# Altium footprint library Power Devices.PcbLib: 48 footprints (part 1 of 3)
Each footprint in its own frame and in the unit in brackets; x right, y up, seen from the top. Pads: shape width x height; smd on the part's side, far side on the other; paste and mask are expansions set on the pad; w line width, h text height; cw(c..) or ccw(c..) is an arc to the next point about the centre after c.
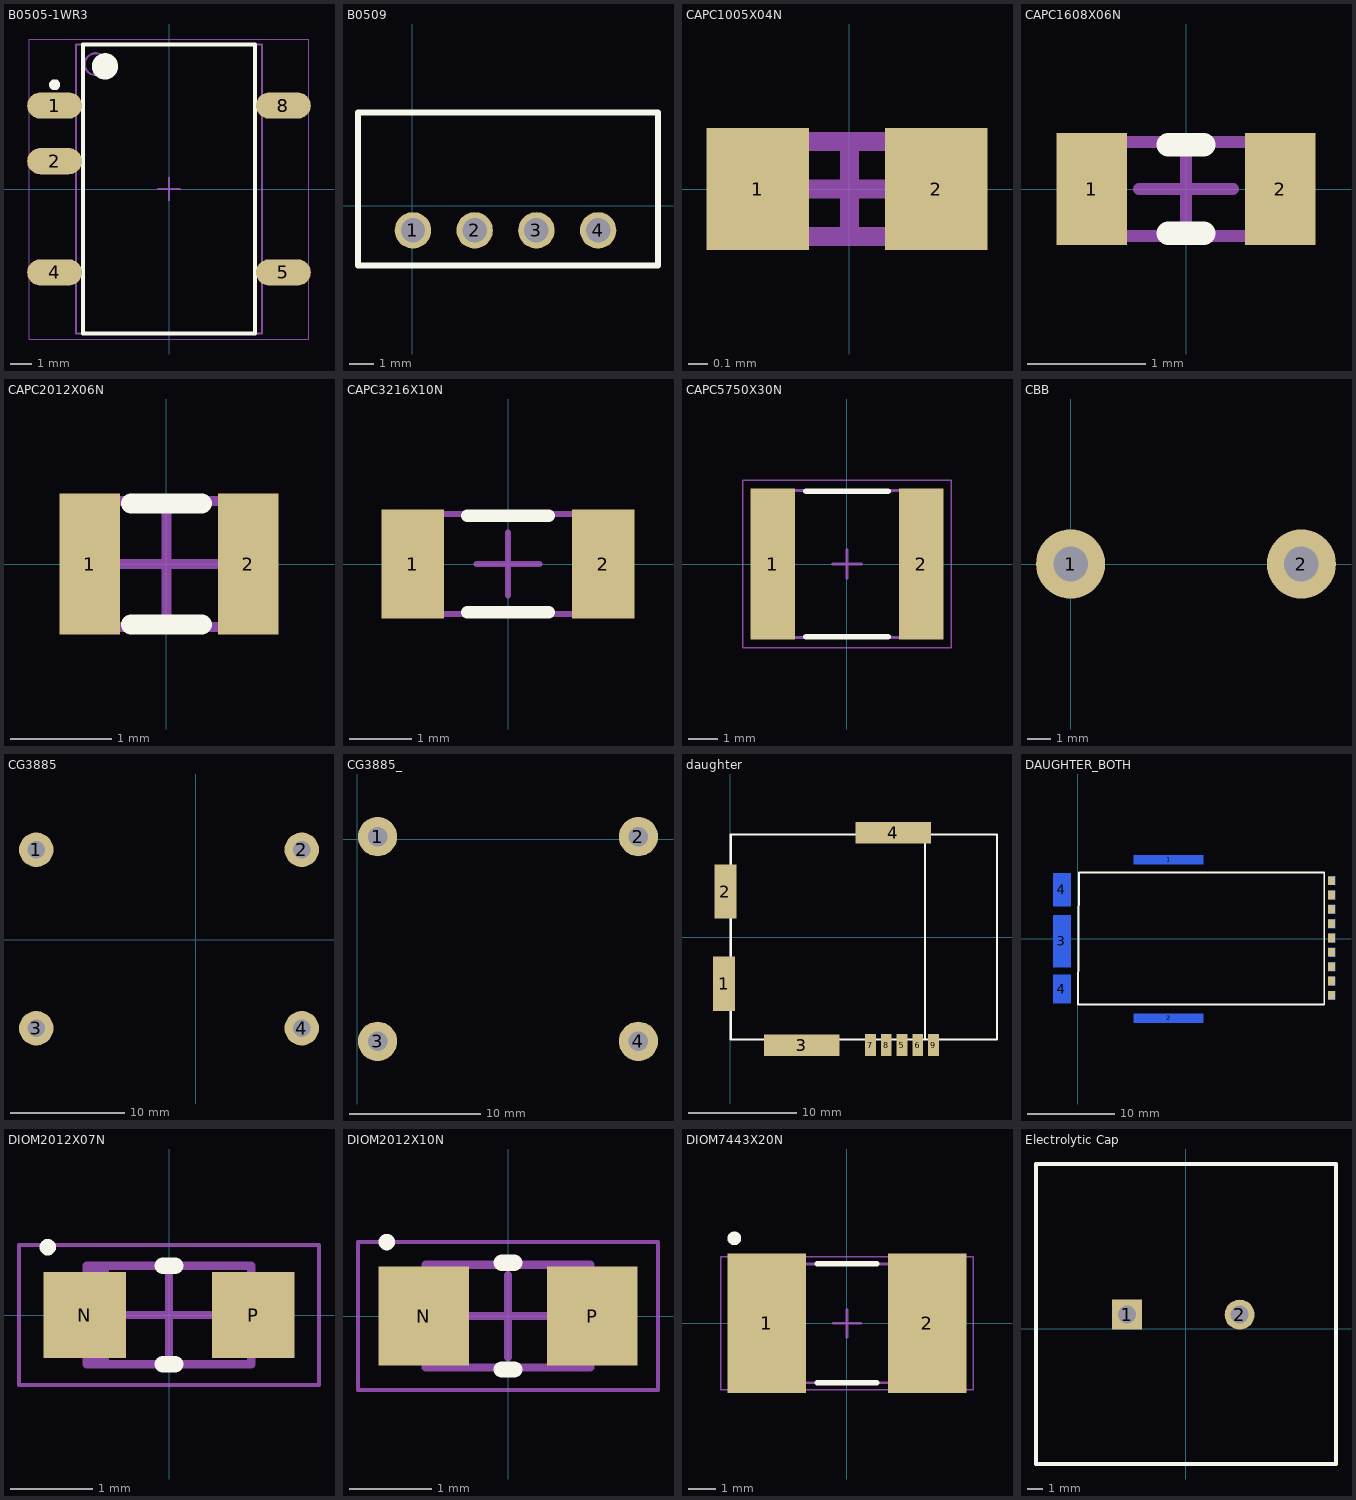
[diagram p0: the footprints below, top view; thin cyan lines are the x and y axes]

## B0505-1WR3 [mm] "SOP, 8-Leads, Body 13.20x8.50mm, Pitch 2.54mm, IPC Medium Density"
height 7.5
pads (5):
  oval 2.5x1.2 smd: 1(-5.225,3.81) 2(-5.225,1.27) 4(-5.225,-3.81) 5(5.225,-3.81) 8(5.225,3.81)
Top Overlay:
  circle w0.6: c-2.925,5.6 r0.3
  circle w0.25: c-5.225,4.76 r0.125
  lines w0.2: -3.925,-6.6 3.925,-6.6 3.925,6.6 -3.925,6.6 -3.925,-6.6
Mechanical 13:
  circle w0.1: c-3.35,5.7 r0.5
  lines w0.1: -4.25,-6.6 4.25,-6.6 4.25,6.6 -4.25,6.6 -4.25,-6.6
Mechanical 15:
  lines w0.05: -6.375,-6.85 6.375,-6.85 6.375,6.85 -6.375,6.85 -6.375,-6.85
  lines w0.1: -0.5,0 0.5,0 ; 0,-0.5 0,0.5
3D body "SOP254P1140X750-8N.step": height 7.5, standoff 0, extent -5.7,-6.6 5.7,6.6

## B0509 [mm]
pads (4):
  round 1.5 hole 1: 1(0.025,-1.016) 2(2.565,-1.016) 3(5.105,-1.016) 4(7.645,-1.016)
Top Overlay:
  lines w0.254: -2.235,-2.464 10.109,-2.464 10.109,3.835 -2.235,3.835 -2.235,-2.464

## CAPC1005X04N [mm] "Chip Capacitor, 2-Leads, Body 1.00x0.50mm, IPC Medium Density"
height 0.4
pads (2):
  rect 0.54x0.64 smd: 1(-0.483,0) 2(0.457,0)
Mechanical 13:
  lines w0.1: -0.5,-0.25 0.5,-0.25 0.5,0.25 -0.5,0.25 -0.5,-0.25
Mechanical 15:
  lines w0.1: -0.25,0 0.25,0 ; 0,-0.25 0,0.25
3D body "CAPC1005X04N.step": height 0.4, standoff 0, extent -0.5,-0.25 0.5,0.25

## CAPC1608X06N [mm] "Chip Capacitor, 2-Leads, Body 1.60x0.80mm, IPC Medium Density"
height 0.6
pads (2):
  rect 0.6x0.95 smd: 1(-0.8,0) 2(0.8,0)
Top Overlay:
  lines w0.2: -0.15,-0.375 0.15,-0.375 ; -0.15,0.375 0.15,0.375
Mechanical 13:
  lines w0.1: -0.8,-0.4 0.8,-0.4 0.8,0.4 -0.8,0.4 -0.8,-0.4
Mechanical 15:
  lines w0.1: -0.4,0 0.4,0 ; 0,-0.4 0,0.4
3D body "CAPC1608X06N.step": height 0.6, standoff 0, extent -0.8,-0.4 0.8,0.4

## CAPC2012X06N [mm] "Chip Capacitor, 2-Leads, Body 2.00x1.25mm, IPC Medium Density"
height 0.6
pads (2):
  rect 0.6x1.4 smd: 1(-0.762,0) 2(0.813,0)
Top Overlay:
  lines w0.2: -0.35,-0.6 0.35,-0.6 ; -0.35,0.6 0.35,0.6
Mechanical 13:
  lines w0.1: -1,-0.625 -1,0.625 1,0.625 1,-0.625 -1,-0.625
Mechanical 15:
  lines w0.1: -0.5,0 0.5,0 ; 0,-0.5 0,0.5
3D body "CAPC2012X06N.step": height 0.6, standoff 0, extent -1,-0.625 1,0.625

## CAPC3216X10N [mm] "Chip Capacitor, 2-Leads, Body 3.20x1.60mm, IPC Medium Density"
height 1
pads (2):
  rect 1x1.75 smd: 1(-1.525,0) 2(1.525,0)
Top Overlay:
  lines w0.2: -0.65,-0.775 0.65,-0.775 ; -0.65,0.775 0.65,0.775
Mechanical 13:
  lines w0.1: -1.6,-0.8 -1.6,0.8 1.6,0.8 1.6,-0.8 -1.6,-0.8
Mechanical 15:
  lines w0.1: -0.5,0 0.5,0 ; 0,-0.5 0,0.5
3D body "CAPC3216X10N.step": height 1, standoff 0, extent -1.6,-0.8 1.6,0.8

## CAPC5750X30N [mm] "Chip Capacitor, 2-Leads, Body 5.70x5.00mm, IPC Medium Density"
height 3
pads (2):
  rect 1.5x5.15 smd: 1(-2.525,0) 2(2.525,0)
Top Overlay:
  lines w0.2: -1.4,-2.475 1.4,-2.475 ; -1.4,2.475 1.4,2.475
Mechanical 13:
  lines w0.1: -2.85,-2.5 2.85,-2.5 2.85,2.5 -2.85,2.5 -2.85,-2.5
Mechanical 15:
  lines w0.05: -3.55,-2.85 3.55,-2.85 3.55,2.85 -3.55,2.85 -3.55,-2.85
  lines w0.1: -0.5,0 0.5,0 ; 0,-0.5 0,0.5
3D body "CAPC5750X30N.step": height 3, standoff 0, extent -2.85,-2.5 2.85,2.5

## CBB [mm]
pads (2):
  round 3 hole 1.5: 1(0,0) 2(10,0)
3D body: height 0.25, standoff 0, extent -6.833,6.579 -6.833,6.579
3D body: height 0.25, standoff 0, extent -5.105,6.502 -5.105,6.502
3D body: height 10, standoff 0, extent -3.861,-3.988 13.868,4.284

## CG3885 [mm]
pads (4):
  round 3 hole 1.5: 1(-13.894,7.849) 2(9.271,7.849) 3(-13.894,-7.722) 4(9.271,-7.722)

## CG3885_ [mm]
pads (4):
  round 3 hole 1.5: 1(1.575,0.178) 2(21.514,0.178) 3(1.575,-15.469) 4(21.514,-15.469)
3D body "choke.stp": height 10, standoff 0, extent 0.108,-18.815 23.108,4.185

## daughter [mm]
pads (9):
  rect 2x5 smd: 1(-0.559,-4.267) 2(-0.432,4.242)
  rect 7x2 smd: 3(6.604,-9.957) 4(15.062,9.677)
  rect 1x2 smd: 5(15.862,-9.931) 6(17.316,-9.931) 7(12.954,-9.931) 8(14.408,-9.931) 9(18.771,-9.931)
Top Overlay:
  lines w0.2: 17.069,9.5 18.11,9.5 ; 18,-9.423 18,9.5 ; 0.051,-9.423 24.638,-9.423 24.638,9.5 0.051,9.5 0.051,-9.423
3D body "daughter_board_single_side.step": height 1.9, standoff 0, extent 0.025,-9.398 24.638,9.398

## DAUGHTER_BOTH [mm]
pads (23):
  rect 8x1 smd far side: 1(10.363,9.017) 2(10.363,-9.119)
  rect 2x5.944 smd far side: 3(-1.829,-0.33)
  rect 2x3.277 smd far side: 4(-1.829,-5.791)
  rect 2x3.8 smd far side: 4(-1.829,5.58)
  rect 0.8x1 smd: 5(29.032,-1.578) 6(29.032,-3.219) 7(29.032,-4.861) 8(29.032,-6.502) 9(29.032,3.346) 10(29.032,1.705) 11(29.032,0.063) 12(29.032,4.988) 13(29.032,6.629)
  rect 0.8x1 smd far side: 5(29.032,-1.578) 6(29.032,-3.219) 7(29.032,-4.861) 8(29.032,-6.502) 9(29.032,3.346) 10(29.032,1.705) 11(29.032,0.064) 12(29.032,4.988) 13(29.032,6.629)
Top Overlay:
  lines w0.2: 0,-7.555 0.127,7.555 28.19,7.555 28.19,-7.555 0,-7.555
3D body "daughter_board.step": height 1.5, standoff -2.4, extent 0.05,-7.531 28.397,7.582

## DIOM2012X07N [mm] "Molded Diode, 2-Leads, Body 2.00x1.20mm, IPC Medium Density"
height 0.7
pads (2):
  rect 1x1.05 smd: N(-1.025,0) P(1.025,0)
Top Overlay:
  circle w0.1: c-1.475,0.825 r0.05
  lines w0.2: -0.075,-0.6 0.075,-0.6 ; -0.075,0.6 0.075,0.6
Mechanical 13:
  rectangle: -1,-0.6 -0.731,0.6
  lines w0.1: -1,-0.6 -1,0.6 1,0.6 1,-0.6 -1,-0.6
Mechanical 15:
  lines w0.05: -1.825,-0.85 -1.825,0.85 1.825,0.85 1.825,-0.85 -1.825,-0.85
  lines w0.1: -0.5,0 0.5,0 ; 0,-0.5 0,0.5
3D body "DIOM2012X07N.step": height 0.7, standoff 0, extent -1.22,-0.6 1.22,0.6

## DIOM2012X10N [mm] "Molded Diode, 2-Leads, Body 2.00x1.25mm, IPC Medium Density"
height 1
pads (2):
  rect 1.1x1.2 smd: N(-1.025,0) P(1.025,0)
Top Overlay:
  circle w0.1: c-1.475,0.9 r0.05
  lines w0.2: -0.075,-0.65 0.075,-0.65 ; -0.075,0.65 0.075,0.65
Mechanical 13:
  rectangle: -1,-0.625 -0.731,0.625
  lines w0.1: -1,-0.625 -1,0.625 1,0.625 1,-0.625 -1,-0.625
Mechanical 15:
  lines w0.05: -1.825,-0.9 -1.825,0.9 1.825,0.9 1.825,-0.9 -1.825,-0.9
  lines w0.1: -0.5,0 0.5,0 ; 0,-0.5 0,0.5
3D body "DIOM2012X10N.step": height 1, standoff 0, extent -1.22,-0.625 1.22,0.625

## DIOM7443X20N [mm] "Molded Diode, 2-Leads, Body 7.45x4.30mm, IPC Medium Density"
height 2
pads (2):
  rect 2.85x5.05 smd: 1(-2.9,0) 2(2.9,0)
Top Overlay:
  circle w0.25: c-4.075,3.075 r0.125
  lines w0.2: -1.075,-2.15 1.075,-2.15 ; -1.075,2.15 1.075,2.15
Mechanical 13:
  rectangle: -3.8,-2.15 -2.778,2.15
  lines w0.1: -3.8,-2.15 -3.8,2.15 3.8,2.15 3.8,-2.15 -3.8,-2.15
Mechanical 15:
  lines w0.05: -4.575,-2.4 -4.575,2.4 4.575,2.4 4.575,-2.4 -4.575,-2.4
  lines w0.1: -0.5,0 0.5,0 ; 0,-0.5 0,0.5
3D body "DIOM7443X20N.step": height 2, standoff 0, extent -4.02,-2.5 4.02,2.5

## Electrolytic Cap [mm]
pads (2):
  rect 2x2 hole 1.2 unplated: 1(-3.902,0.94)
  round 2 hole 1.2 unplated: 2(3.598,0.94)
Top Overlay:
  lines w0.254: -9.982,-9.017 10.018,-9.017 10.018,10.983 -9.982,10.983 -9.982,-9.017
3D body "DC Cap.stp": height 43.91, standoff 2.76, extent -9.3,-8.068 9.109,10.101